# Altium integrated library CRCW0402220RJNED.IntLib: 1 symbol
Pins are listed as number, name and electrical type; pins without a type are passive.

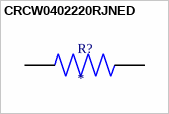
[diagram p0: symbol CRCW0402220RJNED]

## CRCW0402220RJNED
designator R?
Res Thick Film 0402 220 Ohm 5% 1/16W Â±200ppm/Â°C Molded SMD SMD Paper T/R; MP: CRCW0402220RJNED; Package: None; Price: None; Value: *; Availability: Unavailable
footprint RESC1005X40N
pins: 1, 2